# Altium schematic symbol library Schlib1.SchLib: 31 symbols
Pins are listed as number, name and electrical type; pins without a type are passive.

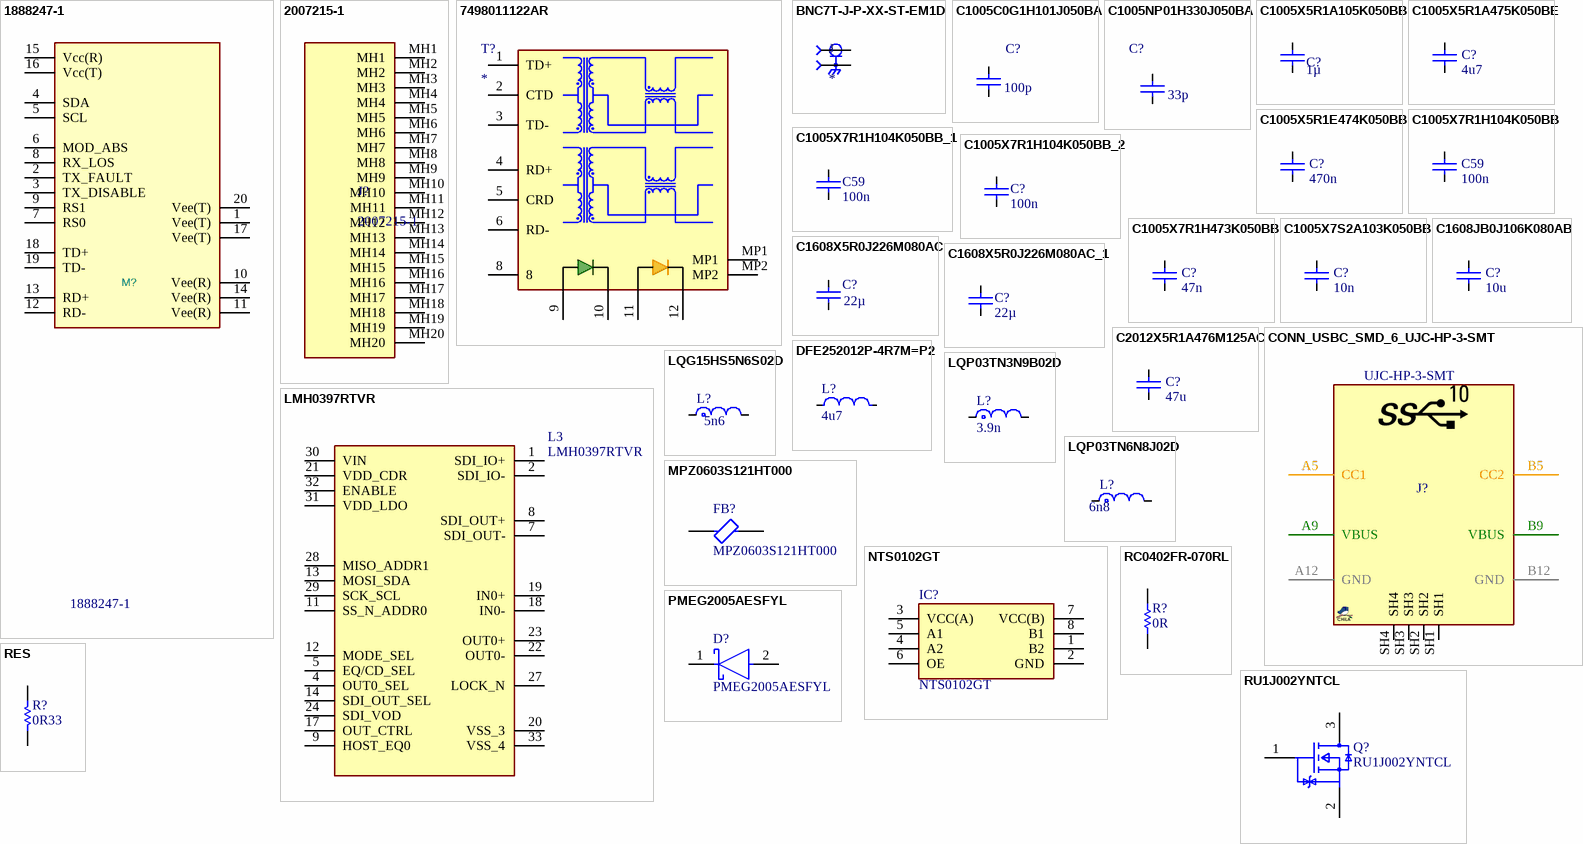
[diagram p0: symbols 1888247-1 to RU1J002YNTCL]

## 1888247-1
designator M?
SFP+, Connector, .8mm [.031in] Centerline, Power & Signal, Operating Temperature Range -55 – 85 °C [-67 – 185 °F], Data Rate (Max) 16Gb/sec; Manufacturer: TE Connectivity (TE; License: Apache-2.0; Author: Parsa Malekpor; Value: 1888247-1; Part Number: 1888247-1
footprint 1888247-1
pins: 1 Vee(T), 2 TX_FAULT, 3 TX_DISABLE, 4 SDA, 5 SCL, 6 MOD_ABS, 7 RS0, 8 RX_LOS, 9 RS1, 10 Vee(R), 11 Vee(R), 12 RD-, 13 RD+, 14 Vee(R), 15 Vcc(R), 16 Vcc(T), 17 Vee(T), 18 TD+, 19 TD-, 20 Vee(T)

## 2007215-1
designator J?
Position SFP+ Cage Connector Press-Fit Through Hole
footprint 2007215-1
pins: MH1, MH2, MH3, MH4, MH5, MH6, MH7, MH8, MH9, MH10, MH11, MH12, MH13, MH14, MH15, MH16, MH17, MH18, MH19, MH20

## 7498011122AR
designator T?
Transformer; Manufacturer_Name: Wurth Elektronik; Manufacturer_Part_Number: 7498011122AR; Datasheet Link: https://www.we-online.com/catalog/datasheet/7498011122AR.pdf; Height: 11mm; Mouser Part Number: 710-7498011122AR; Mouser Price/Stock: https://www.mouser.co.uk/ProductDetail/Wurth-Elektronik/7498011122AR?qs=GBLSl2AkiruAAlB45OgRtA%3D%3D
footprint 7498011122AR
pins: 1 TD+, 2 CTD, 3 TD-, 4 RD+, 5 CRD, 6 RD-, 8, 9 A_YELLOW, 10 K_YELLOW, 11 A_GREEN, 12 K_GREEN, MP1, MP2

## BNC7T-J-P-XX-ST-EM1D
designator J
BNC Connector Jack, Female Socket 75Ohm Board Edge, End Launch; Panel Mount Solder; MP: BNC7T-J-P-GN-ST-EM1D; MF: Samtec Inc.; Package: None; DigiKey-Purchase-URL: https://snapeda.com/shop?store=DigiKey&id=3266999; Price: None; SnapEDA_Link: https://www.snapeda.com/parts/BNC7T-J-P-GN-ST-EM1D/Samtec%20Inc./view-part/3266999/?ref=snap; Toby_UK-Purchase-URL: https://snapeda.com/shop?store=Toby+UK&id=3266999; Value: *; Availability: Unavailable
footprint SAMTEC_BNC7T-J-P-XX-ST-EM1D
pins: 1, S1 2, S2 2, S3 2, S4 2

## C1005C0G1H101J050BA
designator C?  value 100p  (hidden comment: C1005C0G1H101J050BA)
MLCC 100pF ±5% 50V C0G SMD 0402; Temperature Coefficient: 30ppm/°C; Dielectric Material: Ceramic; Packaging: Tape and Reel; Number of Pins: 2; Construction: Flat; Max Operating Temperature: 125°C; Depth: 0.5mm; Radiation Hardening: No; Length: 1mm; Mount: Surface Mount; Thickness: 0.022inch; RoHS Compliant: Yes; Width: 0.5mm; Termination: SMD/SMT; Min Operating Temperature: -55°C; Case/Package: 0402; Tolerance: 5%; Height: 0.5mm; Dielectric: C0G; REACH SVHC: No SVHC; Case Code (Imperial): 0402; Voltage Rating: 50V; Package Quantity: 1; Voltage Rating (DC): 50V; Weight: 2.3E-05oz; Series: C; Case Code (Metric): 1005; Voltage: 50V; Lead Free: Lead Free; Part Number: C1005C0G1H101J050BA
footprint FP-C1005-050-0_05-MFG
footprint FP-C1005-050-0_05-IPC_B
footprint FP-C1005-050-0_05-IPC_C
footprint FP-C1005-050-0_05-IPC_A
pins: 1, 2

## C1005NP01H330J050BA
designator C?  value 33p  (hidden comment: C1005NP01H330J050BA)
MLCC 33pF ±5% 50V NP0 SMD 0402; Dielectric: C0G; Case Code (Imperial): 0402; Thickness: 0.022inch; Width: 0.02inch; Case Code (Metric): 1005; Length: 0.039inch; Voltage Rating (DC): 50V; Mount: Surface Mount; Max Operating Temperature: 150°C; Height: 0.5mm; Weight: 2.3E-05oz; Voltage Rating: 50V; Case/Package: 0402; Features: High Temperature; Termination: SMD/SMT; Package Quantity: 10000; RoHS Compliant: Yes; Series: C; Tolerance: 5%; Min Operating Temperature: -55°C; Packaging: Tape and Reel; Part Number: C1005NP01H330J050BA
footprint FP-C1005-050-0_05-IPC_C
footprint FP-C1005-050-0_05-MFG
footprint FP-C1005-050-0_05-IPC_A
footprint FP-C1005-050-0_05-IPC_B
pins: 1, 2

## C1005X5R1A105K050BB
designator C?  value 1µ  (hidden comment: C1005X5R1A105K050BB)
MLCC 1 uF, +/- 10%, 10 V, -55 to 85 degC, 0402 (1005 Metric), RoHS, Tape and Reel; Manufacturer: TDK; PCN Part Number: MLCCPartNumberChange30/Nov/2012; Product Training Modules: CSeriesGeneralApplicationsSEAT,CCV,andTVCLDesignToolsGuidetoReplacinganElectrolyticCapacitorwithanMLCC; Voltage - Rated: 10V; Temperature Coefficient: X5R; Online Catalog: CSeries,GeneralPurpose; Other Names: 445-4114-6; Category: Capacitors; Features: -; Lead Style: -; RoHS Information: RoHSCertificate-MLCC; Manufacturer URL: http://www.tdk.com/; Lead Spacing: -; Thickness (Max): 0.022"(0.55mm); Applications: GeneralPurpose; Tolerance: ±10%; Mounting Technology: SurfaceMount; Mounting Type: SurfaceMount,MLCC; Operating Temperature: -55°C~85°C; Datasheet URL: http://download.siliconexpert.com/pdfs/2015/4/21/15/54/45/779/tdk_/manual/37024850441143360mlcc_commercial_general_en.pdf; Package Reference: 1005; Height - Seated (Max): -; Family: CeramicCapacitors; Datasheet Version: 03/2015; Package Description: 2-Pin Surface Mount Device, Body 1 x 0.5 mm; Packaging: Digi-Reel®; Size / Dimension: 0.039"Lx0.020"W(1.00mmx0.50mm); Standard Package: 1; Package / Case: 0402(1005Metric); Ratings: -; Series: C; Part Number: C1005X5R1A105K050BB
footprint CAPC1005X55X10LL05 (Chip Capacitor, 2-Leads, Body 1.05x0.55mm, IPC High Density)
footprint CAPC1005X55X10NL05 (Chip Capacitor, 2-Leads, Body 1.05x0.55mm, IPC Medium Density)
pins: 1, 2

## C1005X5R1A475K050BE
designator C?  value 4u7  (hidden comment: C1005X5R1A475K050BE)
MLCC  4.7UF ±20 10V X5R 0402; Tolerance: 10%; Max Operating Temperature: 85°C; Case Code (Metric): 1005; Voltage Rating: 10V; Packaging: Tape and Reel; Case/Package: 0402; Features: Soft Termination; Min Operating Temperature: -55°C; Mount: Surface Mount; Case Code (Imperial): 0402; RoHS Compliant: Yes; Part Number: C1005X5R1A475K050BE
footprint FP-C1005-050-0_20-0_10-MFG
footprint FP-C1005-050-0_20-0_10-IPC_C
footprint FP-C1005-050-0_20-0_10-IPC_B
footprint FP-C1005-050-0_20-0_10-IPC_A
pins: 1, 2

## C1005X5R1E474K050BB
designator C?  value 470n  (hidden comment: C1005X5R1E474K050BB)
MLCC 470nF ±10% 25V X5R SMD 0402; Dielectric Material: Ceramic; Dissipation Factor: 10%; Case Code (Metric): 1005; RoHS Compliant: Yes; Lead Free: Lead Free; Length: 1mm; Case/Package: 0402; Termination: SMD/SMT; Dielectric: X5R; Depth: 0.5mm; Series: C; Voltage: 25V; Tolerance: 10%; Packaging: Tape and Reel; Resistor Type: Ceramic; Min Operating Temperature: -55°C; Width: 0.02inch; Thickness: 500um; Package Quantity: 10000; Case Code (Imperial): 0402; Construction: Flat; Height: 0.5mm; REACH SVHC: No SVHC; Radiation Hardening: No; Weight: 2.3E-05oz; Mount: Surface Mount; Voltage Rating (DC): 25V; Max Operating Temperature: 85°C; Part Number: C1005X5R1E474K050BB; Voltage Rating: 25V
footprint FP-C1005-050-0_05-IPC_C
pins: 1, 2

## C1005X7R1H104K050BB
designator C59  value 100n  (hidden comment: C1005X7R1H104K050BB)
MLCC 100nF ±10% 50V X7R SMD 0402; Dielectric Material: Ceramic; Voltage: 50V; Min Operating Temperature: -55°C; Depth: 0.5mm; Radiation Hardening: No; RoHS Compliant: Yes; Voltage Rating (DC): 50V; Lead Free: Lead Free; Resistor Type: Ceramic; Height: 0.5mm; Dielectric: X7R; Thickness: 0.022inch; Case/Package: 0402; Case Code (Metric): 1005; Termination: SMD/SMT; Packaging: Tape and Reel; Max Operating Temperature: 125°C; Mount: Surface Mount; Package Quantity: 1; Width: 0.02inch; Weight: 2.3E-05oz; Voltage Rating: 50V; Tolerance: 10%; Construction: Flat; Case Code (Imperial): 0402; Length: 1mm; REACH SVHC: No SVHC; Series: C; Part Number: C1005X7R1H104K050BB
footprint FP-C1005-050-0_05-IPC_C
footprint FP-C1005-050-0_05-IPC_A
footprint FP-C1005-050-0_05-IPC_B
footprint FP-C1005-050-0_05-MFG
pins: 1, 2

## C1005X7R1H104K050BB_1
designator C59, comment value 100n  (hidden comment: C1005X7R1H104K050BB)
MLCC 100nF ±10% 50V X7R SMD 0402; Dielectric Material: Ceramic; Voltage: 50V; Min Operating Temperature: -55°C; Depth: 0.5mm; Radiation Hardening: No; RoHS Compliant: Yes; Voltage Rating (DC): 50V; Lead Free: Lead Free; Resistor Type: Ceramic; Height: 0.5mm; Dielectric: X7R; Thickness: 0.022inch; Case/Package: 0402; Case Code (Metric): 1005; Termination: SMD/SMT; Packaging: Tape and Reel; Max Operating Temperature: 125°C; Mount: Surface Mount; Package Quantity: 1; Width: 0.02inch; Weight: 2.3E-05oz; Voltage Rating: 50V; Tolerance: 10%; Construction: Flat; Case Code (Imperial): 0402; Length: 1mm; REACH SVHC: No SVHC; Series: C; Part Number: C1005X7R1H104K050BB
footprint FP-C1005-050-0_05-IPC_C
footprint FP-C1005-050-0_05-IPC_A
footprint FP-C1005-050-0_05-IPC_B
footprint FP-C1005-050-0_05-MFG
pins: 1, 2

## C1005X7R1H104K050BB_2
designator C?, comment value 100n  (hidden comment: C1005X7R1H104K050BB)
MLCC 100nF ±10% 50V X7R SMD 0402; Dielectric Material: Ceramic; Voltage: 50V; Min Operating Temperature: -55°C; Depth: 0.5mm; Radiation Hardening: No; RoHS Compliant: Yes; Voltage Rating (DC): 50V; Lead Free: Lead Free; Resistor Type: Ceramic; Height: 0.5mm; Dielectric: X7R; Thickness: 0.022inch; Case/Package: 0402; Case Code (Metric): 1005; Termination: SMD/SMT; Packaging: Tape and Reel; Max Operating Temperature: 125°C; Mount: Surface Mount; Package Quantity: 1; Width: 0.02inch; Weight: 2.3E-05oz; Voltage Rating: 50V; Tolerance: 10%; Construction: Flat; Case Code (Imperial): 0402; Length: 1mm; REACH SVHC: No SVHC; Series: C; Part Number: C1005X7R1H104K050BB
footprint FP-C1005-050-0_05-IPC_C
footprint FP-C1005-050-0_05-IPC_A
footprint FP-C1005-050-0_05-IPC_B
footprint FP-C1005-050-0_05-MFG
pins: 1, 2

## C1005X7R1H473K050BB
designator C?  value 47n  (hidden comment: C1005X7R1H473K050BB)
MLCC 47nF ±10% 50V X7R SMD 0402; Dielectric Material: Ceramic; Dissipation Factor: 5%; Weight: 2.3E-05oz; Max Operating Temperature: 125°C; Package Quantity: 1; Width: 0.02inch; Min Operating Temperature: -55°C; Length: 1mm; Dielectric: X7R; Voltage Rating: 50V; Number of Pins: 2; Lead Free: Lead Free; Voltage: 50V; Height: 0.5mm; Case Code (Metric): 1005; Voltage Rating (DC): 50V; Construction: Flat; Termination: SMD/SMT; Case Code (Imperial): 0402; Depth: 0.5mm; Packaging: Tape and Reel; Mount: Surface Mount; Series: C; RoHS Compliant: Yes; Tolerance: 10%; Case/Package: 0402; Thickness: 0.022inch; Radiation Hardening: No; Resistor Type: Ceramic; REACH SVHC: No SVHC; Part Number: C1005X7R1H473K050BB
footprint FP-C1005-050-0_05-IPC_C
pins: 1, 2

## C1005X7S2A103K050BB
designator C?  value 10n  (hidden comment: C1005X7S2A103K050BB)
MLCC 10nF ±10% 100V X7S SMD 0402; Dielectric Material: Ceramic; Dissipation Factor: 5%; Case Code (Imperial): 0402; Packaging: Tape and Reel; Voltage Rating (DC): 100V; Max Operating Temperature: 125°C; Min Operating Temperature: -55°C; Case Code (Metric): 1005; Weight: 2.3E-05oz; Length: 1mm; Width: 0.02inch; Tolerance: 10%; Series: C; Package Quantity: 1; RoHS Compliant: Yes; Voltage: 100V; Resistor Type: Ceramic; Number of Pins: 2; Mount: Surface Mount; Height: 0.5mm; Termination: SMD/SMT; Dielectric: X7S; Thickness: 0.022inch; REACH SVHC: No SVHC; Lead Free: Lead Free; Voltage Rating: 100V; Case/Package: 0402; Depth: 0.5mm; Part: *; Part Number: C1005X7S2A103K050BB
footprint FP-C1005-050-0_05-IPC_B
footprint FP-C1005-050-0_05-MFG
footprint FP-C1005-050-0_05-IPC_A
footprint FP-C1005-050-0_05-IPC_C
pins: 1, 2

## C1608JB0J106K080AB
designator C?  value 10u  (hidden comment: C1608JB0J106K080AB)
MLCC 10μF ±10% 6.3V JB SMD 0603; Dielectric Material: Ceramic; Case Code (Imperial): 0603; Thickness: 0.035inch; Min Operating Temperature: -25°C; Termination: SMD/SMT; Lead Free: Lead Free; Resistor Type: Ceramic; Width: 0.8mm; Voltage Rating (DC): 6.3V; Package Quantity: 4000; Tolerance: 10%; Length: 0.063inch; Series: C; Height: 0.8mm; Max Operating Temperature: 85°C; Mount: Surface Mount; RoHS Compliant: Yes; Voltage Rating: 6.3V; Case Code (Metric): 1608; Case/Package: 0603; Packaging: Tape and Reel
footprint FP-C1608-080-0_1-IPC_B
footprint FP-C1608-080-0_1-MFG
footprint FP-C1608-080-0_1-IPC_A
footprint FP-C1608-080-0_1-IPC_C
pins: 1, 2

## C1608X5R0J226M080AC
designator C?  value 22µ  (hidden comment: C1608X5R0J226M080AC)
MLCC 22 uF, ±20%, 6.3 V, -55 to 85 degC, 1608 (0603 Metric), RoHS, Tape and Reel; PCN Part Number: MLCCPartNumberChange30/Nov/2012; Manufacturer: TDK; Temperature Coefficient: X5R; Product Training Modules: CSeriesGeneralApplicationsSEAT,CCV,andTVCLDesignToolsGuidetoReplacinganElectrolyticCapacitorwithanMLCC; Other Names: 445-8028-1; Voltage - Rated: 6.3V; Design Resources: 20WNon-IsolatedBuckLEDDriverUsingPLLNK460KG; Online Catalog: CSeries,GeneralPurpose; Kits: 445-9003-KIT-ND-KITCAPCERHICAPMLCCSMD; Tolerance: ±20%; Series: C; Thickness (Max): 0.039"(1.00mm); Mounting Type: SurfaceMount,MLCC; Ratings: -; Datasheet Version: Mar-15; Package Reference: 603; Packaging: CutTape(CT); Features: -; Package / Case: 0603(1608Metric); Family: CeramicCapacitors; Lead Spacing: -; RoHS Information: RoHSCertificate-MLCC; Manufacturer URL: http://www.tdk.com/; Lead Style: -; Category: Capacitors; Applications: GeneralPurpose; Package Description: 2-Pin Surface Mount Device, Body 1.6 x 0.8 mm; Standard Package: 1; Datasheet URL: http://www.farnell.com/datasheets/1913358.pdf; Height - Seated (Max): -; Operating Temperature: -55degC~85degC; Size / Dimension: 0.063"Lx0.031"W(1.60mmx0.80mm)
footprint CAPC1608X100X20ML10 (Chip Capacitor, 2-Leads, Body 1.70x0.90mm, IPC Low Density)
footprint CAPC1608X100X20NL10 (Chip Capacitor, 2-Leads, Body 1.70x0.90mm, IPC Medium Density)
footprint CAPC1608X100X20LL10 (Chip Capacitor, 2-Leads, Body 1.70x0.90mm, IPC High Density)
pins: 1, 2

## C1608X5R0J226M080AC_1
designator C?, comment value 22µ  (hidden comment: C1608X5R0J226M080AC)
MLCC 22 uF, ±20%, 6.3 V, -55 to 85 degC, 1608 (0603 Metric), RoHS, Tape and Reel; PCN Part Number: MLCCPartNumberChange30/Nov/2012; Manufacturer: TDK; Temperature Coefficient: X5R; Product Training Modules: CSeriesGeneralApplicationsSEAT,CCV,andTVCLDesignToolsGuidetoReplacinganElectrolyticCapacitorwithanMLCC; Other Names: 445-8028-1; Voltage - Rated: 6.3V; Design Resources: 20WNon-IsolatedBuckLEDDriverUsingPLLNK460KG; Online Catalog: CSeries,GeneralPurpose; Kits: 445-9003-KIT-ND-KITCAPCERHICAPMLCCSMD; Tolerance: ±20%; Series: C; Thickness (Max): 0.039"(1.00mm); Mounting Type: SurfaceMount,MLCC; Ratings: -; Datasheet Version: Mar-15; Package Reference: 603; Packaging: CutTape(CT); Features: -; Package / Case: 0603(1608Metric); Family: CeramicCapacitors; Lead Spacing: -; RoHS Information: RoHSCertificate-MLCC; Manufacturer URL: http://www.tdk.com/; Lead Style: -; Category: Capacitors; Applications: GeneralPurpose; Package Description: 2-Pin Surface Mount Device, Body 1.6 x 0.8 mm; Standard Package: 1; Datasheet URL: http://www.farnell.com/datasheets/1913358.pdf; Height - Seated (Max): -; Operating Temperature: -55degC~85degC; Size / Dimension: 0.063"Lx0.031"W(1.60mmx0.80mm)
footprint CAPC1608X100X20ML10 (Chip Capacitor, 2-Leads, Body 1.70x0.90mm, IPC Low Density)
footprint CAPC1608X100X20NL10 (Chip Capacitor, 2-Leads, Body 1.70x0.90mm, IPC Medium Density)
footprint CAPC1608X100X20LL10 (Chip Capacitor, 2-Leads, Body 1.70x0.90mm, IPC High Density)
pins: 1, 2

## C2012X5R1A476M125AC
designator C?  value 47u  (hidden comment: C2012X5R1A476M125AC)
MLCC 47μF ±20% 10V X5R SMD 0805 Multilayer Ceramic Capacitors; RoHS Compliant: Yes; Dielectric: X5R; Case Code (Imperial): 0805; Min Operating Temperature: -55°C; Length: 2mm; Voltage Rating: 10V; Lead Free: Lead Free; Weight: 0.000194oz; Resistor Type: Ceramic; Dielectric Material: Ceramic; Max Operating Temperature: 85°C; Height: 1.25mm; Width: 0.049inch; Depth: 1.25mm; Termination: SMD/SMT; Case/Package: 0805; Voltage Rating (DC): 10V; Voltage: 10V; Thickness: 0.057inch; Tolerance: 20%; REACH SVHC: No SVHC; Package Quantity: 1; Series: C; Case Code (Metric): 2012; Mount: Surface Mount; Packaging: Tape and Reel; Part Number: C2012X5R1A476M125AC
footprint FP-C2012-125-0_2-IPC_B
footprint FP-C2012-125-0_2-MFG
footprint FP-C2012-125-0_2-IPC_A
footprint FP-C2012-125-0_2-IPC_C
pins: 1, 2

## CONN_USBC_SMD_6_UJC-HP-3-SMT
designator J?, comment UJC-HP-3-SMT
CONN, USB, Type C (USB 3.1), Right-Angle, SMD; MANF: CUI Devices; PARAM2: 20v; PARAM: Power Only, 3A; Price: 0.8$; MANF_P#: UJC-HP-3-SMT; Value: UJC-HP-3-SMT
footprint USBC_SMD_6_UJCHP3SMT (Footprint not found)
pins: A5 CC1, A9 VBUS, A12 GND, B5 CC2, B9 VBUS, B12 GND, SH1, SH2, SH3, SH4

## DFE252012P-4R7M=P2
designator L?  value 4u7  (hidden comment: DFE252012P-4R7M=P2)
Shielded Wirewound Inductor 4.7uH 20% 1400mA 0.2Ω 1008 (2520); Core Material: Ferrite; Test Frequency: 1MHz; DC Resistance (DCR): 200mR; Max DC Current: 1.4A; Current Rating: 2A; Case Code (Metric): 2520; Case Code (Imperial): 1008; Inductance: 4.7uH; Mount: Surface Mount; Packaging: Tape and Reel; Depth: 2mm; Length: 0.098inch; Case/Package: 1008; Max Operating Temperature: 125°C; Shielding: Shielded; Width: 0.079inch; Height - Seated (Max): 0.047inch; Tolerance: 20%; Min Operating Temperature: -40°C; Resistor Type: Wirewound
footprint FP-DFE252012C-IPC_C
footprint FP-DFE252012C-IPC_A
footprint FP-DFE252012C-MFG
footprint FP-DFE252012C-IPC_B
pins: 1, 2

## LMH0397RTVR
designator L3
The LMH0397 is a 3G-SDI 75-Ω bidirectional I/O with integrated reclocker.; Manufacturer_Name: Texas Instruments; Datasheet Link: https://www.ti.com/lit/ds/symlink/lmh0397.pdf?HQS=dis-dk-null-digikeymode-dsf-pf-null-wwe&ts=1630762637746; Height: 0.8mm; Manufacturer_Part_Number: LMH0397RTVR; Mouser Part Number: 595-LMH0397RTVR; Mouser Price/Stock: https://www.mouser.co.uk/ProductDetail/Texas-Instruments/LMH0397RTVR?qs=5aG0NVq1C4zpBN83bcpBMQ%3D%3D; Arrow Part Number: LMH0397RTVR; Arrow Price/Stock: https://www.arrow.com/en/products/lmh0397rtvr/texas-instruments?utm_currency=USD&region=nac
footprint QFN50P500X500X80-33N-D
pins: 1 SDI_IO+, 2 SDI_IO-, 4 OUT0_SEL, 5 EQ/CD_SEL, 7 SDI_OUT-, 8 SDI_OUT+, 9 HOST_EQ0, 11 SS_N_ADDR0, 12 MODE_SEL, 13 MOSI_SDA, 14 SDI_OUT_SEL, 17 OUT_CTRL, 18 IN0-, 19 IN0+, 20 VSS_3, 21 VDD_CDR, 22 OUT0-, 23 OUT0+, 24 SDI_VOD, 27 LOCK_N, 28 MISO_ADDR1, 29 SCK_SCL, 30 VIN, 31 VDD_LDO, 32 ENABLE, 33 VSS_4

## LQG15HS5N6S02D
designator L?  value 5n6  (hidden comment: LQG15HS5N6S02D)
Multilayer type RF Inductor 5.6nH ±0.3nH 0.18Ω 650mA 0402; Core Material: Air; Test Frequency: 100MHz; DC Resistance (DCR): 200mR; Shielding: Unshielded; DC Current: 300mA; Self Resonant Frequency: 4.5GHz; Q Factor: 8; Lead Free: Lead Free; Case/Package: 0402; Packaging: Tape and Reel; Height: 0.5mm; Package Quantity: 10000; Max Operating Temperature: 125°C; Termination: SMD/SMT; Width: 0.5mm; Height - Seated (Max): 0.022inch; Depth: 0.55mm; Min Operating Temperature: -55°C; Military Standard: Not; Radiation Hardening: No; Length: 1mm; Case Code (Metric): 1005; Mount: Surface Mount; Case Code (Imperial): 0402; Inductance: 5.6nH; Max DC Current: 300mA; Current Rating: 300mA
footprint FP-LQG15HH_02-MFG
footprint FP-LQG15HH_02-IPC_B
footprint FP-LQG15HH_02-IPC_C
footprint FP-LQG15HH_02-IPC_A
pins: 1, 2

## LQP03TN3N9B02D
designator L?  value 3.9n  (hidden comment: LQP03TN3N9B02D)
Film type RF Inductor 3.9nH ±0.1nH 400mA 0.3Ω 0201 (0603); DC Resistance (DCR): 300mR; Core Material: Non-Magnetic; Test Frequency: 500MHz; Q Factor: 14; Shielding: Unshielded; Current: 250mA; Self Resonant Frequency: 5.7GHz; Tolerance: 3%; Case/Package: 0201; Height - Seated (Max): 0.013inch; Termination: SMD/SMT; Package Quantity: 15000; Series: LQP; Depth: 0.33mm; Lead Free: Lead Free; Inductance: 3.9nH; Rated Current-Max: 400mA; Length: 0.6mm; Height: 0.3mm; Case Code (Metric): 0603; Resistor Type: Thin Film; Packaging: Tape and Reel; Radiation Hardening: No; Technology: THIN FILM; Max DC Current: 400mA; Military Standard: Not; Min Operating Temperature: -55°C; Width: 0.012inch; DC Current: 400mA; Mount: Surface Mount; REACH SVHC: No SVHC; Current Rating: 400mA; Max Operating Temperature: 125°C; Case Code (Imperial): 0201
footprint FP-LQP03TG_02-IPC_A
footprint FP-LQP03TG_02-IPC_C
footprint FP-LQP03TG_02-MFG
footprint FP-LQP03TG_02-IPC_B
pins: 1, 2

## LQP03TN6N8J02D
designator L?  value 6n8  (hidden comment: LQP03TN6N8J02D)
Film type RF Inductor 6.8nH ±5% 300mA 0.6Ω 0201 (0603); DC Resistance (DCR): 600mR; Q Factor: 14; Shielding: Unshielded; Self Resonant Frequency: 3.9GHz; Core Material: Non-Magnetic; Test Frequency: 500MHz; Mount: Surface Mount; Case Code (Metric): 0603; Depth: 0.33mm; DC Current: 300mA; Current Rating: 300mA; Height: 0.3mm; Min Operating Temperature: -55°C; Width: 0.012inch; Height - Seated (Max): 0.013inch; Package Quantity: 15000; Max DC Current: 300mA; Radiation Hardening: No; Resistor Type: Thin Film; Packaging: Tape and Reel; Length: 0.024inch; Case Code (Imperial): 0201; Weight: 6E-06oz; Military Standard: Not; Case/Package: 0201; Termination: SMD/SMT; Max Operating Temperature: 125°C; Tolerance: 5%
footprint FP-LQP03TG_02-IPC_A
footprint FP-LQP03TG_02-MFG
footprint FP-LQP03TG_02-IPC_C
footprint FP-LQP03TG_02-IPC_B
pins: 1, 2

## MPZ0603S121HT000
designator FB?
CHIP BEADS FOR GENERAL SIGNAL LI; Max Current Rating: 1A; DC Resistance (DCR): 130mR; Number of Lines: 1; Min Operating Temperature: -55°C; Mount: Surface Mount; Case Code (Imperial): 0201; Case Code (Metric): 0603; Max Operating Temperature: 125°C; RoHS Compliant: Yes; Packaging: Cut Tape; Case/Package: 0201
footprint FP-MPZ0603-IPC_C
footprint FP-MPZ0603-IPC_B
footprint FP-MPZ0603-IPC_A
footprint FP-MPZ0603-MFG
pins: 1, 2

## NTS0102GT
designator IC?
Integrated Circuit; Manufacturer_Name: NXP; Datasheet Link: https://www.nxp.com/docs/en/data-sheet/NTS0102.pdf; Height: 0.5mm; Manufacturer_Part_Number: NTS0102GT; Mouser Part Number: N/A; Mouser Price/Stock: https://www.mouser.co.uk/ProductDetail/NXP-Semiconductors/NTS0102GT?qs=fAHHVMwC%252BbiEwQ74lfEnvg%3D%3D
footprint NTS0102GT
pins: 1 B2, 2 GND, 3 VCC(A), 4 A2, 5 A1, 6 OE, 7 VCC(B), 8 B1

## PMEG2005AESFYL
designator D?
DIODE SCHOTTKY 20V 0.5A SOD962; Manufacturer: Nexperia; Max Junction Temp: +150°C; Peak Reverse Current: 10uA; Capacitance: 25pF; Forward Current: 0.71A; Max Surge Forward Current: 4.5A; Value: 25pF; Lead Free: Yes; ComponentLink2Description: Datasheet; Octopart: https://octopart.com/pmeg2005aesfyl-nexperia-78741393; Ambient Temperature Range High: +150°C; Height: 0.32mm; Footprint Url: https://assets.nexperia.com/documents/outline-drawing/SOD962-2.pdf; Automotive: No; Device Class L2: Diodes; Ambient Temperature Range Low: -55°C; Device Class L3: Schottky Diodes; ComponentLink2URL: https://assets.nexperia.com/documents/data-sheet/PMEG2005AESF.pdf; Reverse Voltage: 20V; Temperature: to +150°C; Temperature Range High: +150°C; Device Class L1: Discrete Semiconductors; RoHS: TRUE; Digikey Description: DIODE SCHOTTKY 20V 0.5A SOD962; Category: Diode; Package: SOD962; Manufacturer Part Number: PMEG2005AESFYL
footprint FP-PMEG2005AESFYL-MFG
pins: 1 K, 2 A

## RC0402FR-070RL
designator R?  value 0R  (hidden comment: RC0402FR-070RL)
Manufacturer: Yageo / Phycomp; Part Number: RC0402FR-076K98L
footprint RESC1005X40X25ML05T10 (Chip Resistor, 2-Leads, Body 1.00x0.50mm, IPC Low Density)
footprint RESC1005X40X25NL05T10 (Chip Resistor, 2-Leads, Body 1.00x0.50mm, IPC Medium Density)
footprint RESC1005X40X25LL05T10 (Chip Resistor, 2-Leads, Body 1.00x0.50mm, IPC High Density)
pins: 1, 2
1 alternate drawing of the same symbol

## RES
designator R?, comment value 0R33  (hidden comment: ERJ-3RQFR33V)
Manufacturer: Panasonic; Part Number: ERJ-3RQFR33V
footprint RESC1608X55X30ML15T15 (Chip Resistor, 2-Leads, Body 1.60x0.80mm, IPC Low Density)
footprint RESC1608X55X30LL15T15 (Chip Resistor, 2-Leads, Body 1.60x0.80mm, IPC High Density)
footprint RESC1608X55X30NL15T15 (Chip Resistor, 2-Leads, Body 1.60x0.80mm, IPC Medium Density)
pins: 1, 2
1 alternate drawing of the same symbol

## RU1J002YNTCL
designator Q?
MOSFET N-CH 50V 0.2A UMT3F; Manufacturer: Rohm; Drain To Source Resistance: 1.6Ω; Depletion Mode: False; Continuous Drain Current: 200mA; Pulse Drain Current: 800mA; Turn On Delay Time: 5ns; Threshold Vgs Max: 0.8V; Rthja Max: 833°C/W; Max Forward Diode Voltage: 1.2V; Max Junction Temp: +150°C; Standoff Height: 0mm; Input Capacitace At Vds: 26pF @ 10V; Number Of Channels: 1; Power Dissipation: 150mW; Gate To Source Voltage: 8V; Turn Off Delay Time: 17ns; Threshold Vgs Min: 0.3V; Lead Free: Yes; Device Class L3: MOSFETs; Drain To Source Voltage: 50V; ComponentLink2URL: https://d1d2qsbl8m0m72.cloudfront.net/en/products/databook/datasheet/discrete/transistor/mosfet/ru1j002yn-e.pdf; RoHS: TRUE; Device Class L2: Transistors; Mouser Description: MOSFET 0.9V Drive Nch MOSFET; Category: Trans; Octopart: https://octopart.com/ru1j002yntcl-rohm-47197697; Temperature: to +150°C; Height: 1.05mm; Number Of N Channels: 1; Package: UMT3F; ComponentLink2Description: Datasheet; Automotive: No; Drain To Source Breakdown Voltage: 50V; Device Class L1: Discrete Semiconductors; Digikey Description: MOSFET N-CH 50V 0.2A UMT3F; Manufacturer Part Number: RU1J002YNTCL; Temperature Range High: +150°C
footprint FP-UMT3F-MFG
pins: 1 G, 2 S, 3 D

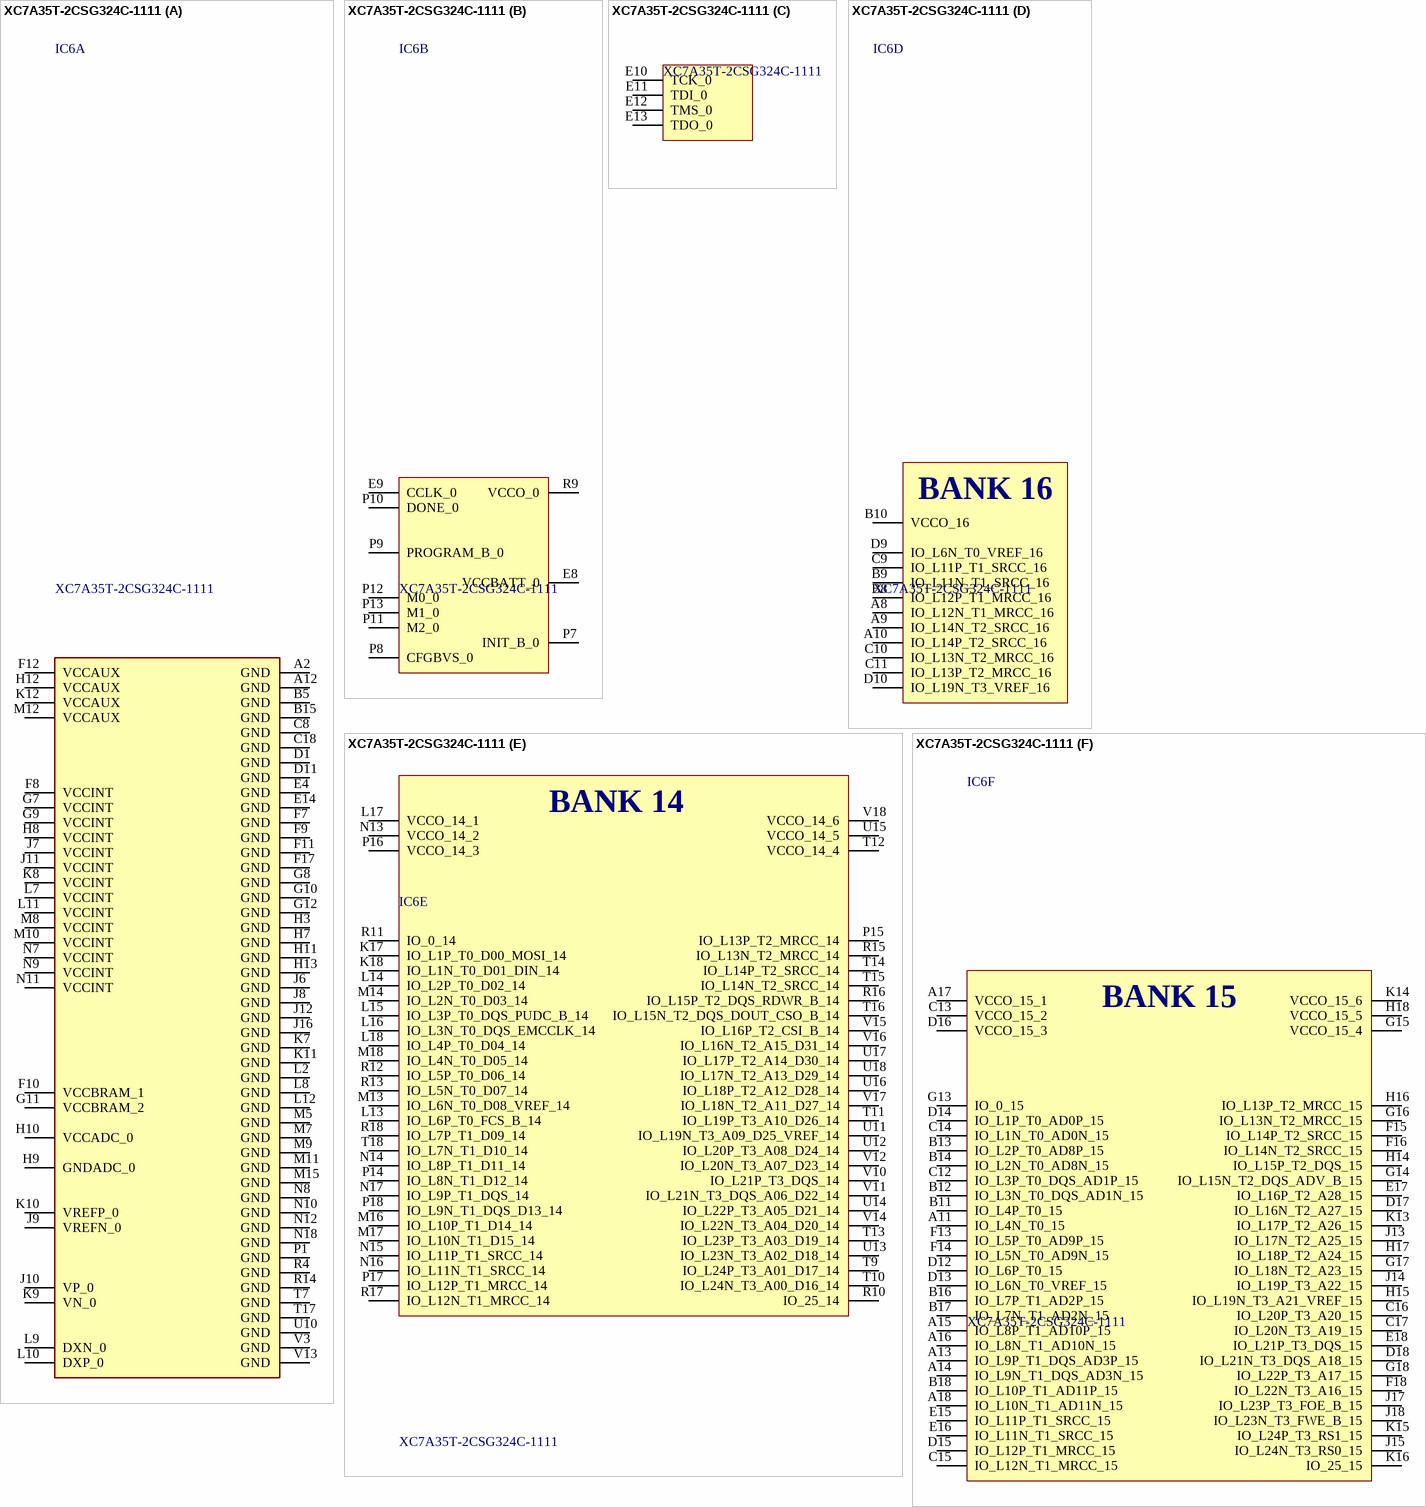
[diagram p1: symbol XC7A35T-2CSG324C-1111]

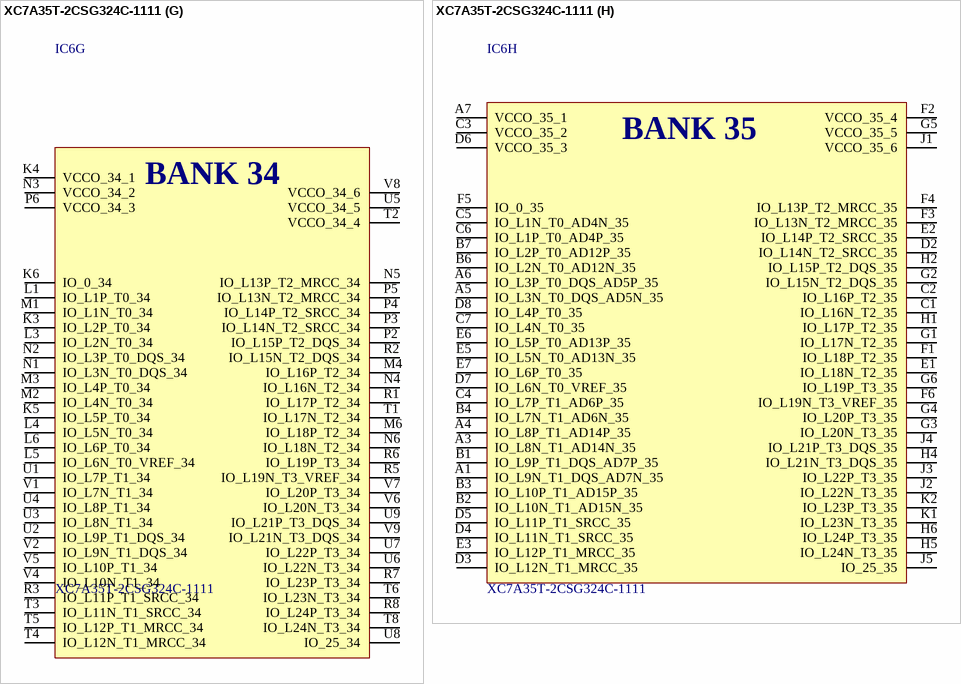
[diagram p2: symbol XC7A35T-2CSG324C-1111]

## XC7A35T-2CSG324C-1111
designator IC6
Integrated Circuit; Manufacturer_Name: AMD; Datasheet Link: https://www.xilinx.com/support/documentation/data_sheets/ds181_Artix_7_Data_Sheet.pdf; Height: 1.5mm; Manufacturer_Part_Number: XC7A35T-2CSG324C; Mouser Part Number: 217-XC7A35T-2CSG324C; Mouser Price/Stock: https://www.mouser.co.uk/ProductDetail/AMD-Xilinx/XC7A35T-2CSG324C?qs=rrS6PyfT74fMA9%2F3WtPZmw%3D%3D
footprint BGA324C80P18X18_1500X1500X150
part A pins: A2 GND, A12 GND, B5 GND, B15 GND, C8 GND, C18 GND, D1 GND, D11 GND, E4 GND, E14 GND, F7 GND, F8 VCCINT, F9 GND, F10 VCCBRAM_1, F11 GND, F12 VCCAUX, F17 GND, G7 VCCINT, G8 GND, G9 VCCINT, G10 GND, G11 VCCBRAM_2, G12 GND, H3 GND, H7 GND, H8 VCCINT, H9 GNDADC_0, H10 VCCADC_0, H11 GND, H12 VCCAUX, H13 GND, J6 GND, J7 VCCINT, J8 GND, J9 VREFN_0, J10 VP_0, J11 VCCINT, J12 GND, J16 GND, K7 GND, K8 VCCINT, K9 VN_0, K10 VREFP_0, K11 GND, K12 VCCAUX, L2 GND, L7 VCCINT, L8 GND, L9 DXN_0, L10 DXP_0, L11 VCCINT, L12 GND, M5 GND, M7 GND, M8 VCCINT, M9 GND, M10 VCCINT, M11 GND, M12 VCCAUX, M15 GND, N7 VCCINT, N8 GND, N9 VCCINT, N10 GND, N11 VCCINT, N12 GND, N18 GND, P1 GND, R4 GND, R14 GND, T7 GND, T17 GND, U10 GND, V3 GND, V13 GND
part B pins: E8 VCCBATT_0, E9 CCLK_0, P7 INIT_B_0, P8 CFGBVS_0, P9 PROGRAM_B_0, P10 DONE_0, P11 M2_0, P12 M0_0, P13 M1_0, R9 VCCO_0
part C pins: E10 TCK_0, E11 TDI_0, E12 TMS_0, E13 TDO_0
part D pins: A8 IO_L12N_T1_MRCC_16, A9 IO_L14N_T2_SRCC_16, A10 IO_L14P_T2_SRCC_16, B8 IO_L12P_T1_MRCC_16, B9 IO_L11N_T1_SRCC_16, B10 VCCO_16, C9 IO_L11P_T1_SRCC_16, C10 IO_L13N_T2_MRCC_16, C11 IO_L13P_T2_MRCC_16, D9 IO_L6N_T0_VREF_16, D10 IO_L19N_T3_VREF_16
part E pins: K17 IO_L1P_T0_D00_MOSI_14, K18 IO_L1N_T0_D01_DIN_14, L13 IO_L6P_T0_FCS_B_14, L14 IO_L2P_T0_D02_14, L15 IO_L3P_T0_DQS_PUDC_B_14, L16 IO_L3N_T0_DQS_EMCCLK_14, L17 VCCO_14_1, L18 IO_L4P_T0_D04_14, M13 IO_L6N_T0_D08_VREF_14, M14 IO_L2N_T0_D03_14, M16 IO_L10P_T1_D14_14, M17 IO_L10N_T1_D15_14, M18 IO_L4N_T0_D05_14, N13 VCCO_14_2, N14 IO_L8P_T1_D11_14, N15 IO_L11P_T1_SRCC_14, N16 IO_L11N_T1_SRCC_14, N17 IO_L9P_T1_DQS_14, P14 IO_L8N_T1_D12_14, P15 IO_L13P_T2_MRCC_14, P16 VCCO_14_3, P17 IO_L12P_T1_MRCC_14, P18 IO_L9N_T1_DQS_D13_14, R10 IO_25_14, R11 IO_0_14, R12 IO_L5P_T0_D06_14, R13 IO_L5N_T0_D07_14, R15 IO_L13N_T2_MRCC_14, R16 IO_L15P_T2_DQS_RDWR_B_14, R17 IO_L12N_T1_MRCC_14, R18 IO_L7P_T1_D09_14, T9 IO_L24P_T3_A01_D17_14, T10 IO_L24N_T3_A00_D16_14, T11 IO_L19P_T3_A10_D26_14, T12 VCCO_14_4, T13 IO_L23P_T3_A03_D19_14, T14 IO_L14P_T2_SRCC_14, T15 IO_L14N_T2_SRCC_14, T16 IO_L15N_T2_DQS_DOUT_CSO_B_14, T18 IO_L7N_T1_D10_14, U11 IO_L19N_T3_A09_D25_VREF_14, U12 IO_L20P_T3_A08_D24_14, U13 IO_L23N_T3_A02_D18_14, U14 IO_L22P_T3_A05_D21_14, U15 VCCO_14_5, U16 IO_L18P_T2_A12_D28_14, U17 IO_L17P_T2_A14_D30_14, U18 IO_L17N_T2_A13_D29_14, V10 IO_L21P_T3_DQS_14, V11 IO_L21N_T3_DQS_A06_D22_14, V12 IO_L20N_T3_A07_D23_14, V14 IO_L22N_T3_A04_D20_14, V15 IO_L16P_T2_CSI_B_14, V16 IO_L16N_T2_A15_D31_14, V17 IO_L18N_T2_A11_D27_14, V18 VCCO_14_6
part F pins: A11 IO_L4N_T0_15, A13 IO_L9P_T1_DQS_AD3P_15, A14 IO_L9N_T1_DQS_AD3N_15, A15 IO_L8P_T1_AD10P_15, A16 IO_L8N_T1_AD10N_15, A17 VCCO_15_1, A18 IO_L10N_T1_AD11N_15, B11 IO_L4P_T0_15, B12 IO_L3N_T0_DQS_AD1N_15, B13 IO_L2P_T0_AD8P_15, B14 IO_L2N_T0_AD8N_15, B16 IO_L7P_T1_AD2P_15, B17 IO_L7N_T1_AD2N_15, B18 IO_L10P_T1_AD11P_15, C12 IO_L3P_T0_DQS_AD1P_15, C13 VCCO_15_2, C14 IO_L1N_T0_AD0N_15, C15 IO_L12N_T1_MRCC_15, C16 IO_L20P_T3_A20_15, C17 IO_L20N_T3_A19_15, D12 IO_L6P_T0_15, D13 IO_L6N_T0_VREF_15, D14 IO_L1P_T0_AD0P_15, D15 IO_L12P_T1_MRCC_15, D16 VCCO_15_3, D17 IO_L16N_T2_A27_15, D18 IO_L21N_T3_DQS_A18_15, E15 IO_L11P_T1_SRCC_15, E16 IO_L11N_T1_SRCC_15, E17 IO_L16P_T2_A28_15, E18 IO_L21P_T3_DQS_15, F13 IO_L5P_T0_AD9P_15, F14 IO_L5N_T0_AD9N_15, F15 IO_L14P_T2_SRCC_15, F16 IO_L14N_T2_SRCC_15, F18 IO_L22N_T3_A16_15, G13 IO_0_15, G14 IO_L15N_T2_DQS_ADV_B_15, G15 VCCO_15_4, G16 IO_L13N_T2_MRCC_15, G17 IO_L18N_T2_A23_15, G18 IO_L22P_T3_A17_15, H14 IO_L15P_T2_DQS_15, H15 IO_L19N_T3_A21_VREF_15, H16 IO_L13P_T2_MRCC_15, H17 IO_L18P_T2_A24_15, H18 VCCO_15_5, J13 IO_L17N_T2_A25_15, J14 IO_L19P_T3_A22_15, J15 IO_L24N_T3_RS0_15, J17 IO_L23P_T3_FOE_B_15, J18 IO_L23N_T3_FWE_B_15, K13 IO_L17P_T2_A26_15, K14 VCCO_15_6, K15 IO_L24P_T3_RS1_15, K16 IO_25_15
part G pins: K3 IO_L2P_T0_34, K4 VCCO_34_1, K5 IO_L5P_T0_34, K6 IO_0_34, L1 IO_L1P_T0_34, L3 IO_L2N_T0_34, L4 IO_L5N_T0_34, L5 IO_L6N_T0_VREF_34, L6 IO_L6P_T0_34, M1 IO_L1N_T0_34, M2 IO_L4N_T0_34, M3 IO_L4P_T0_34, M4 IO_L16P_T2_34, M6 IO_L18P_T2_34, N1 IO_L3N_T0_DQS_34, N2 IO_L3P_T0_DQS_34, N3 VCCO_34_2, N4 IO_L16N_T2_34, N5 IO_L13P_T2_MRCC_34, N6 IO_L18N_T2_34, P2 IO_L15P_T2_DQS_34, P3 IO_L14N_T2_SRCC_34, P4 IO_L14P_T2_SRCC_34, P5 IO_L13N_T2_MRCC_34, P6 VCCO_34_3, R1 IO_L17P_T2_34, R2 IO_L15N_T2_DQS_34, R3 IO_L11P_T1_SRCC_34, R5 IO_L19N_T3_VREF_34, R6 IO_L19P_T3_34, R7 IO_L23P_T3_34, R8 IO_L24P_T3_34, T1 IO_L17N_T2_34, T2 VCCO_34_4, T3 IO_L11N_T1_SRCC_34, T4 IO_L12N_T1_MRCC_34, T5 IO_L12P_T1_MRCC_34, T6 IO_L23N_T3_34, T8 IO_L24N_T3_34, U1 IO_L7P_T1_34, U2 IO_L9P_T1_DQS_34, U3 IO_L8N_T1_34, U4 IO_L8P_T1_34, U5 VCCO_34_5, U6 IO_L22N_T3_34, U7 IO_L22P_T3_34, U8 IO_25_34, U9 IO_L21P_T3_DQS_34, V1 IO_L7N_T1_34, V2 IO_L9N_T1_DQS_34, V4 IO_L10N_T1_34, V5 IO_L10P_T1_34, V6 IO_L20N_T3_34, V7 IO_L20P_T3_34, V8 VCCO_34_6, V9 IO_L21N_T3_DQS_34
part H pins: A1 IO_L9N_T1_DQS_AD7N_35, A3 IO_L8N_T1_AD14N_35, A4 IO_L8P_T1_AD14P_35, A5 IO_L3N_T0_DQS_AD5N_35, A6 IO_L3P_T0_DQS_AD5P_35, A7 VCCO_35_1, B1 IO_L9P_T1_DQS_AD7P_35, B2 IO_L10N_T1_AD15N_35, B3 IO_L10P_T1_AD15P_35, B4 IO_L7N_T1_AD6N_35, B6 IO_L2N_T0_AD12N_35, B7 IO_L2P_T0_AD12P_35, C1 IO_L16N_T2_35, C2 IO_L16P_T2_35, C3 VCCO_35_2, C4 IO_L7P_T1_AD6P_35, C5 IO_L1N_T0_AD4N_35, C6 IO_L1P_T0_AD4P_35, C7 IO_L4N_T0_35, D2 IO_L14N_T2_SRCC_35, D3 IO_L12N_T1_MRCC_35, D4 IO_L11N_T1_SRCC_35, D5 IO_L11P_T1_SRCC_35, D6 VCCO_35_3, D7 IO_L6N_T0_VREF_35, D8 IO_L4P_T0_35, E1 IO_L18N_T2_35, E2 IO_L14P_T2_SRCC_35, E3 IO_L12P_T1_MRCC_35, E5 IO_L5N_T0_AD13N_35, E6 IO_L5P_T0_AD13P_35, E7 IO_L6P_T0_35, F1 IO_L18P_T2_35, F2 VCCO_35_4, F3 IO_L13N_T2_MRCC_35, F4 IO_L13P_T2_MRCC_35, F5 IO_0_35, F6 IO_L19N_T3_VREF_35, G1 IO_L17N_T2_35, G2 IO_L15N_T2_DQS_35, G3 IO_L20N_T3_35, G4 IO_L20P_T3_35, G5 VCCO_35_5, G6 IO_L19P_T3_35, H1 IO_L17P_T2_35, H2 IO_L15P_T2_DQS_35, H4 IO_L21N_T3_DQS_35, H5 IO_L24N_T3_35, H6 IO_L24P_T3_35, J1 VCCO_35_6, J2 IO_L22N_T3_35, J3 IO_L22P_T3_35, J4 IO_L21P_T3_DQS_35, J5 IO_25_35, K1 IO_L23N_T3_35, K2 IO_L23P_T3_35
part D text: BANK 16
part E text: BANK 14
part F text: BANK 15
part G text: BANK 34
part H text: BANK 35